# Altium integrated library Lite-On Optoelectronic Photocouplers.IntLib: 1 symbol
Pins are listed as number, name and electrical type; pins without a type are passive.

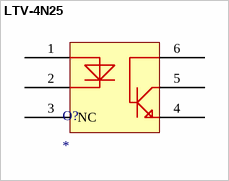
[diagram p0: symbol LTV-4N25]

## LTV-4N25
designator O?
pins: 1, 2, 3 NC, 4, 5, 6